# Altium footprint library SULLINS NPPN091BFCN.PCBLIB: 1 footprints
Each footprint in its own frame and in the unit in brackets; x right, y up, seen from the top. Pads: shape width x height; smd on the part's side, far side on the other; paste and mask are expansions set on the pad; w line width, h text height; cw(c..) or ccw(c..) is an arc to the next point about the centre after c.
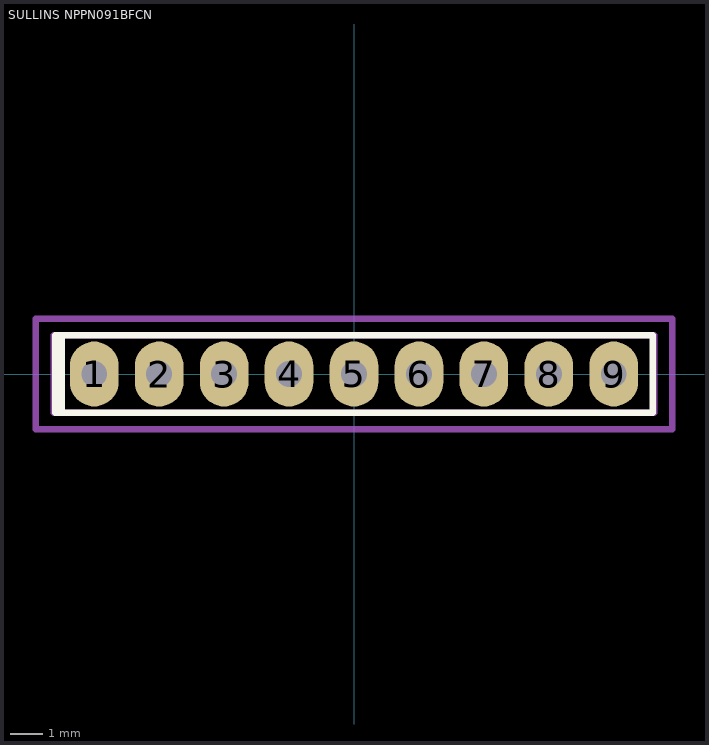
[diagram p0: the footprint, top view; thin cyan lines are the x and y axes]

## SULLINS NPPN091BFCN [mm]
height 4.4
pads (9):
  oval 1.5x2 hole 0.8: 1(-8,0) 2(-6,0) 3(-4,0) 4(-2,0) 5(0,0) 6(2,0) 7(4,0) 8(6,0) 9(8,0)
Top Overlay:
  lines w0.2: -9,-1.2 -9,1.2 ; -9.2,-1.2 -9.2,1.2 9.2,1.2 9.2,-1.2 -9.2,-1.2
Mechanical 1:
  lines w0.2: 9.25,-1.2 9.25,1.2 ; 9.25,-1.2 -9.25,-1.2 -9.25,1.2 9.25,1.2
Mechanical 15:
  lines w0.2: -0.5,0 0.5,0 ; 0,-0.5 0,0.5 ; -9.8,-1.7 -9.8,1.7 9.8,1.7 9.8,-1.7 -9.8,-1.7
3D body "Sullins NPPN091BFCN-RC.STEP": height 4.41, standoff -2.39, extent -9.25,-1.2 9.25,1.2